# Altium schematic symbol library BC817-40.SchLib: 1 symbol
Pins are listed as number, name and electrical type; pins without a type are passive.

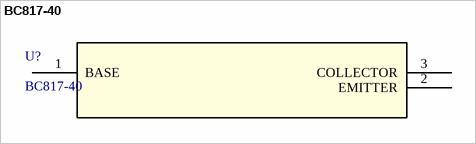
[diagram p0: symbol BC817-40]

## BC817-40
designator U?
No Description Available; Manufacturer_Name: Nexperia; Copyright: Copyright (C) 2026 Ultra Librarian. All rights reserved.; Manufacturer_Part_Number: BC817-40; RefDes: RefDes; Type: Type
footprint SOT23_NEX
pins: 1 BASE, 2 EMITTER, 3 COLLECTOR